# EAGLE library part TPS54X0 (library packages(ti))
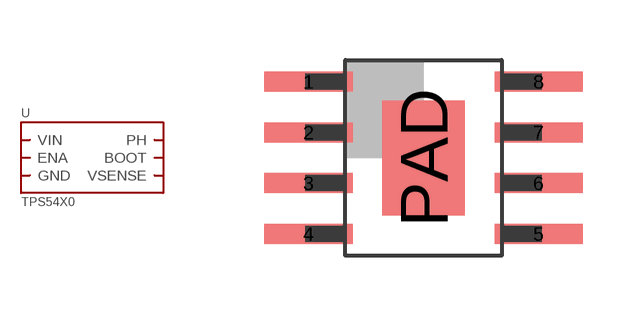
[diagram p24: symbol with the pads of DDA; footprint DDA]

Designator prefix U

## TPS54X0  [DDA]
1  BOOT
4  VSENSE
5  ENA
6  GND
7  VIN
8  PH
PAD  GND

## Footprint DDA (pad centres in mm)
smd 2.2 x 0.5: 1 -2.875,1.905; 2 -2.875,0.635; 3 -2.875,-0.635; 4 -2.875,-1.905; 5 2.875,-1.905; 6 2.875,-0.635; 7 2.875,0.635; 8 2.875,1.905
smd 2.05 x 2.875: PAD 0,0